# Altium schematic symbol library Regulator_Controller.SchLib: 154 symbols (part 2 of 2)
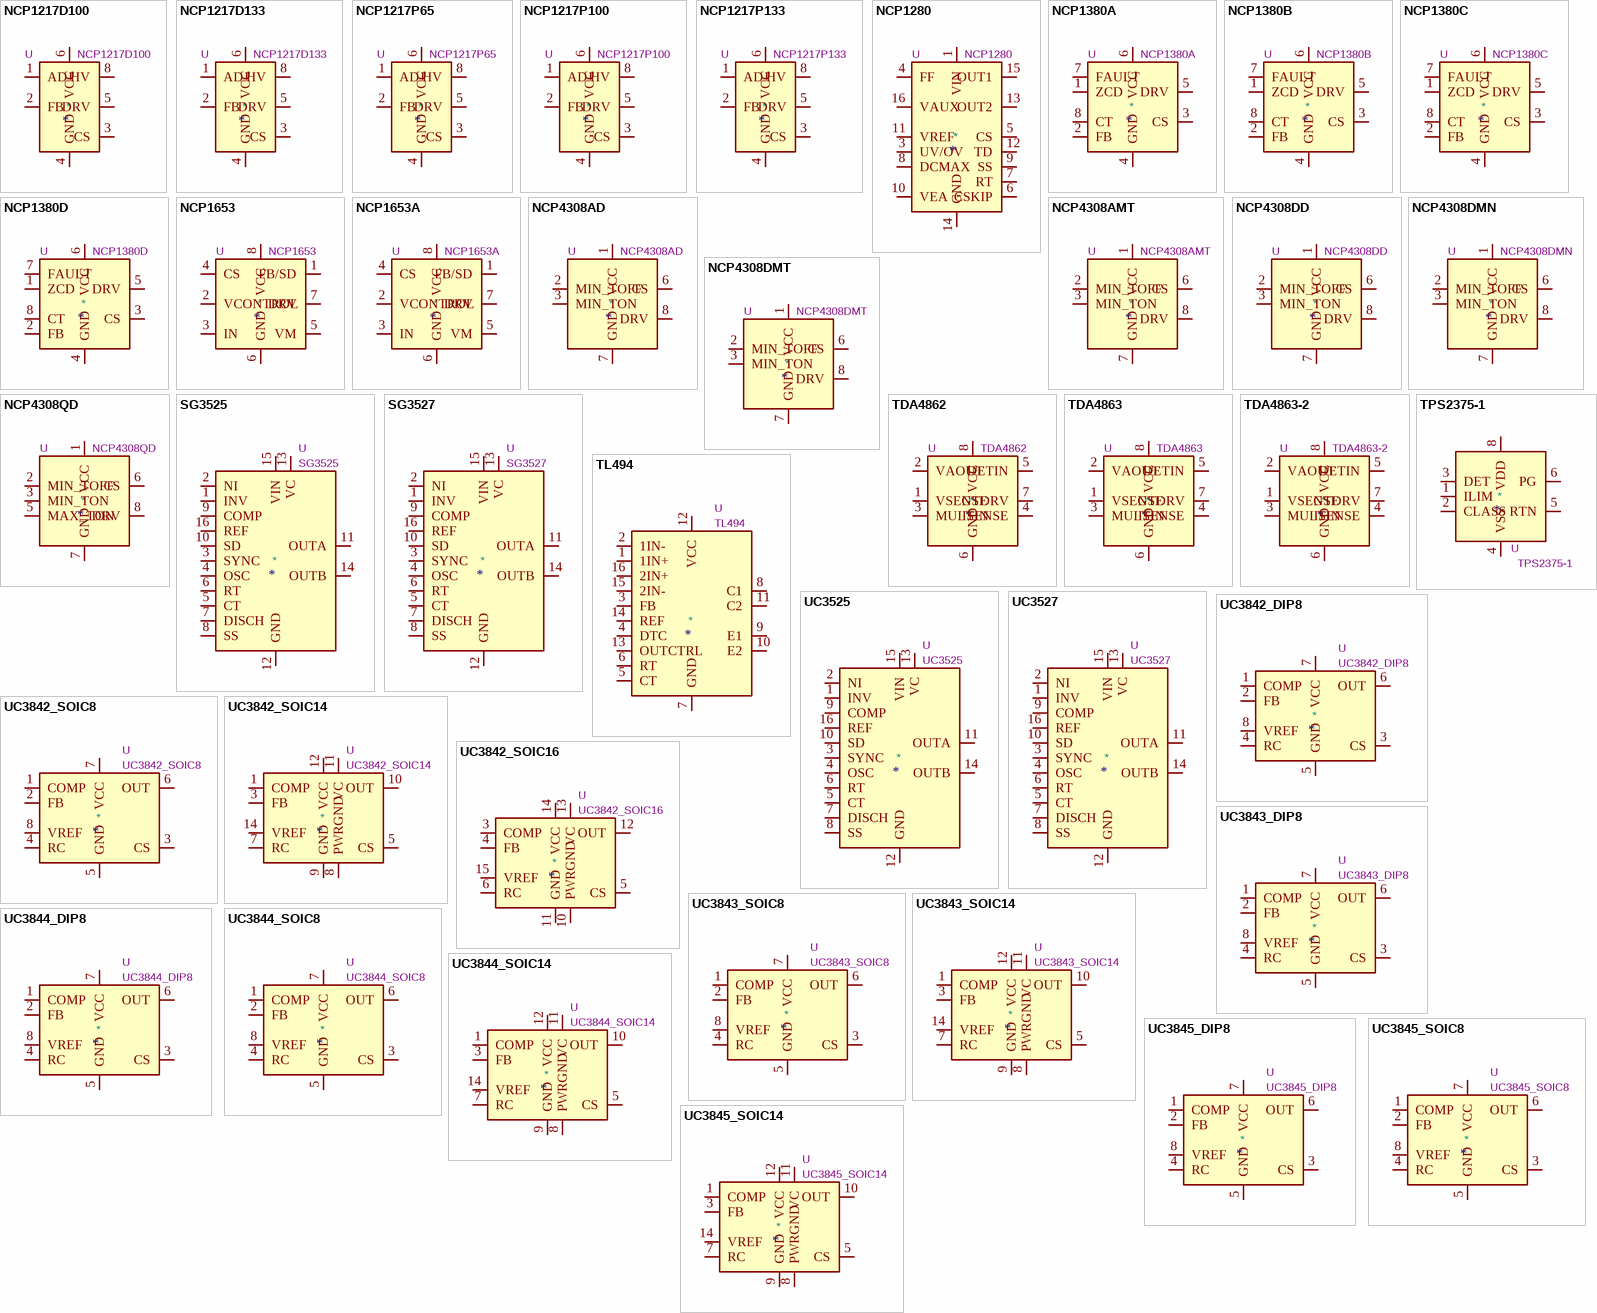
[diagram p4: symbols NCP1217D100 to UC3845_SOIC14]

## UC3844_DIP8
designator *  value UC3844_DIP8  Reference: U
ki_keywords: SMPS PWM Controller; ki_description: Current-Mode PWM Controllers, 50% Duty Cycle, 16V/10V UVLO, PDIP-8; ki_fp_filters: DIP*W7.62mm*; Footprint: Package_DIP:DIP-8_W7.62mm; Datasheet: http://www.ti.com/lit/ds/symlink/uc3842.pdf
pins: 1 COMP, 2 FB, 3 CS, 4 RC, 5 GND, 6 OUT, 7 VCC, 8 VREF

## UC3844_SOIC8
designator *  value UC3844_SOIC8  Reference: U
ki_keywords: SMPS PWM Controller; ki_description: Current-Mode PWM Controllers, 50% Duty Cycle, 16V/10V UVLO, SOIC-8; ki_fp_filters: SOIC*3.9x4.9mm*P1.27mm*; Footprint: Package_SO:SOIC-8_3.9x4.9mm_P1.27mm; Datasheet: http://www.ti.com/lit/ds/symlink/uc3842.pdf
pins: 1 COMP, 2 FB, 3 CS, 4 RC, 5 GND, 6 OUT, 7 VCC, 8 VREF

## UC3844_SOIC14
designator *  value UC3844_SOIC14  Reference: U
ki_keywords: SMPS PWM Controller; ki_description: Current-Mode PWM Controllers, 50% Duty Cycle, 16V/10V UVLO, SOIC-14; ki_fp_filters: SOIC*3.9x8.7mm*P1.27mm*; Footprint: Package_SO:SOIC-14_3.9x8.7mm_P1.27mm; Datasheet: http://www.ti.com/lit/ds/symlink/uc3842.pdf
pins: 1 COMP, 2 NC hidden, 3 FB, 4 NC hidden, 5 CS, 6 NC hidden, 7 RC, 8 PWRGND, 9 GND, 10 OUT, 11 VC, 12 VCC, 13 NC hidden, 14 VREF

## UC3845_DIP8
designator *  value UC3845_DIP8  Reference: U
ki_keywords: SMPS PWM Controller; ki_description: Current-Mode PWM Controllers, 50% Duty Cycle, 8.4V/7.6V UVLO, PDIP-8; ki_fp_filters: DIP*W7.62mm*; Footprint: Package_DIP:DIP-8_W7.62mm; Datasheet: http://www.ti.com/lit/ds/symlink/uc3842.pdf
pins: 1 COMP, 2 FB, 3 CS, 4 RC, 5 GND, 6 OUT, 7 VCC, 8 VREF

## UC3845_SOIC8
designator *  value UC3845_SOIC8  Reference: U
ki_keywords: SMPS PWM Controller; ki_description: Current-Mode PWM Controllers, 50% Duty Cycle, 8.4V/7.6V UVLO, SOIC-8; ki_fp_filters: SOIC*3.9x4.9mm*P1.27mm*; Footprint: Package_SO:SOIC-8_3.9x4.9mm_P1.27mm; Datasheet: http://www.ti.com/lit/ds/symlink/uc3842.pdf
pins: 1 COMP, 2 FB, 3 CS, 4 RC, 5 GND, 6 OUT, 7 VCC, 8 VREF

## UC3845_SOIC14
designator *  value UC3845_SOIC14  Reference: U
ki_keywords: SMPS PWM Controller; ki_description: Current-Mode PWM Controllers, 50% Duty Cycle, 8.4V/7.6V UVLO, SOIC-14; ki_fp_filters: SOIC*3.9x8.7mm*P1.27mm*; Footprint: Package_SO:SOIC-14_3.9x8.7mm_P1.27mm; Datasheet: http://www.ti.com/lit/ds/symlink/uc3842.pdf
pins: 1 COMP, 2 NC hidden, 3 FB, 4 NC hidden, 5 CS, 6 NC hidden, 7 RC, 8 PWRGND, 9 GND, 10 OUT, 11 VC, 12 VCC, 13 NC hidden, 14 VREF

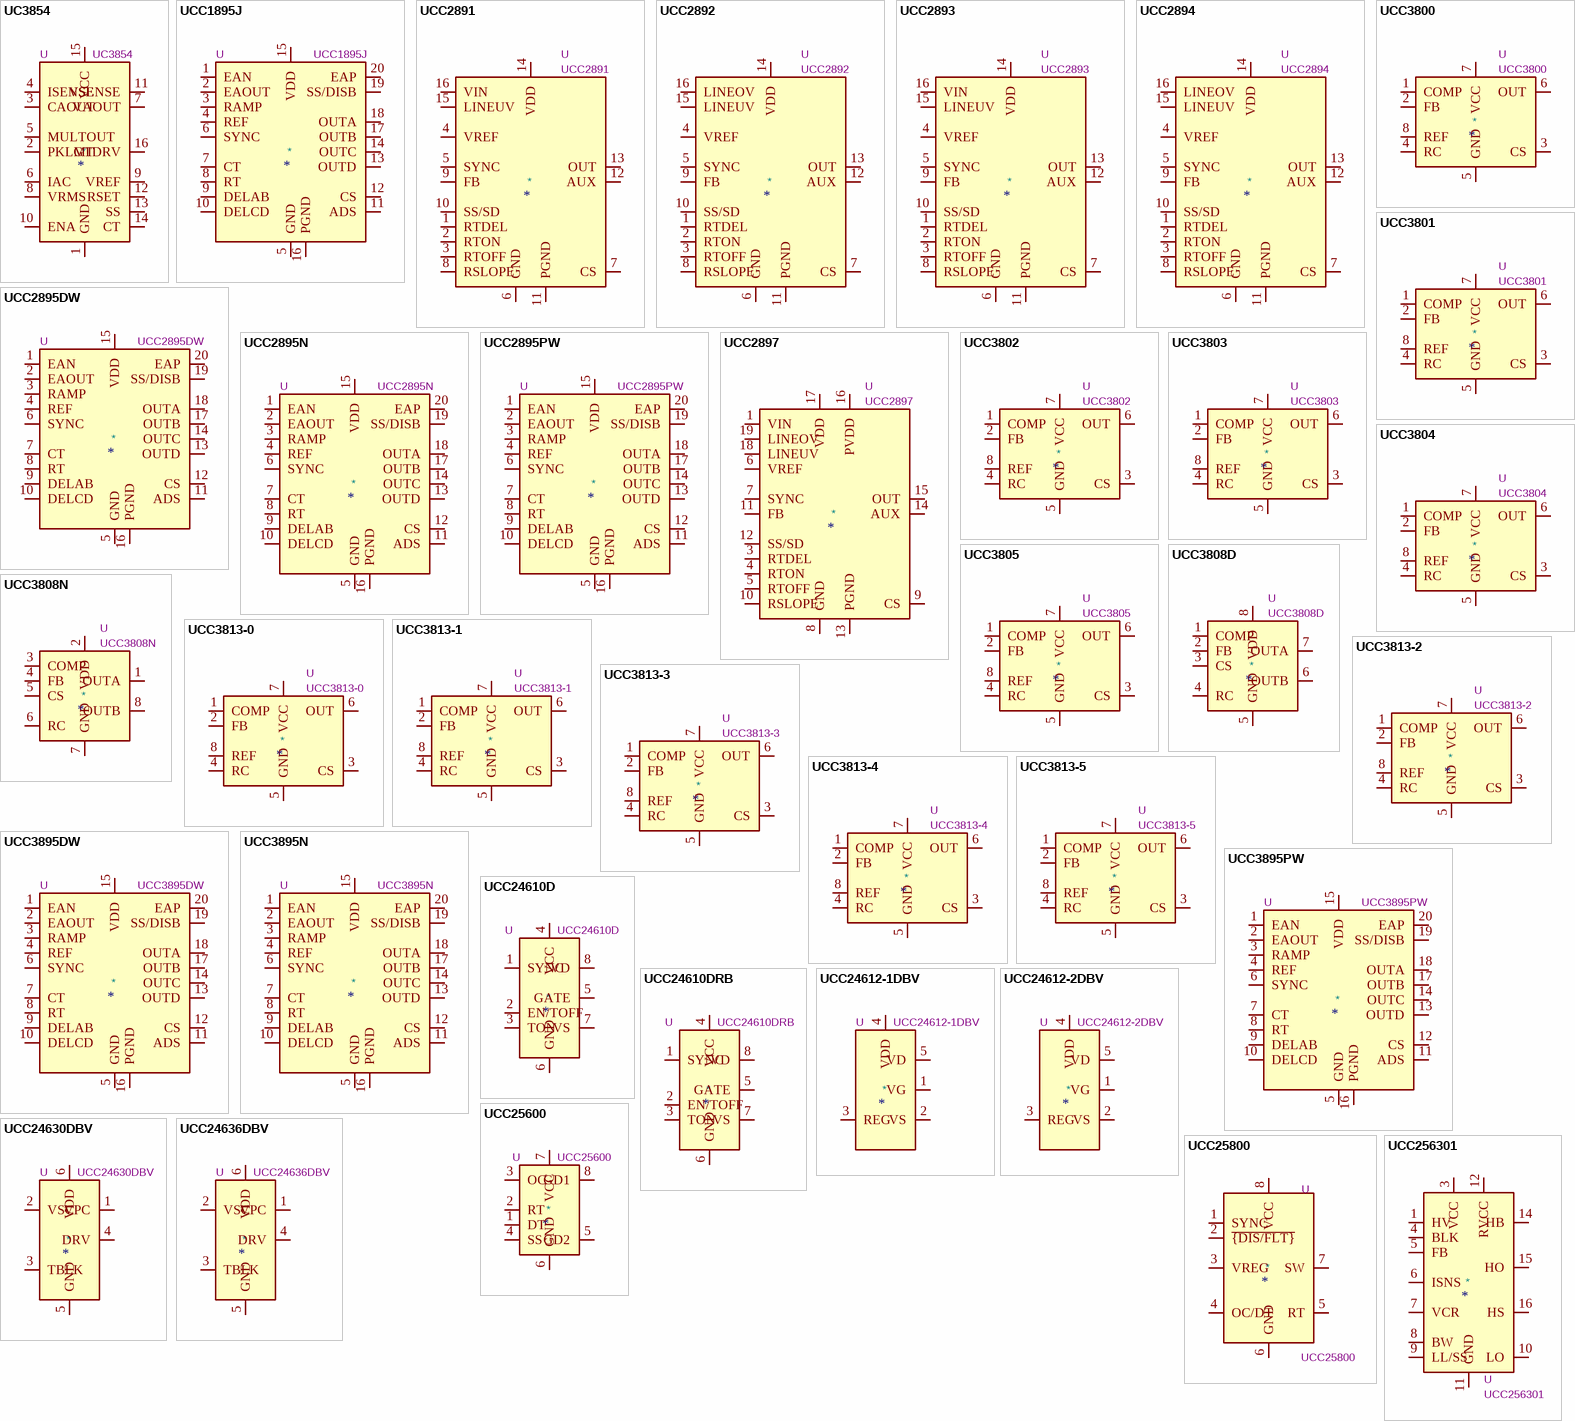
[diagram p3: symbols UC3854 to UCC256301]

## UC3854
designator *  value UC3854  Reference: U
ki_keywords: PFC SMPS Controller; ki_description: High-Power Factor Preregulator, DIP-16/SOIC-16W; ki_fp_filters: SOIC*7.5x10.3mm*P1.27mm* DIP*W7.62mm*; Datasheet: http://www.ti.com/lit/ds/symlink/uc3854.pdf
pins: 1 GND, 2 PKLMT, 3 CAOUT, 4 ISENSE, 5 MULTOUT, 6 IAC, 7 VAOUT, 8 VRMS, 9 VREF, 10 ENA, 11 VSENSE, 12 RSET, 13 SS, 14 CT, 15 VCC, 16 GTDRV

## UCC1895J
designator *  value UCC1895J  Reference: U
ki_keywords: Phase-shift full-bridge converter; ki_description: BiCMOS, Advanced Phase-ShiftPWM Controller, CDIP-20; ki_fp_filters: DIP*W7.62mm*; Footprint: Package_DIP:DIP-20_W7.62mm_LongPads; Datasheet: http://www.ti.com/lit/ds/symlink/ucc3895.pdf
pins: 1 EAN, 2 EAOUT, 3 RAMP, 4 REF, 5 GND, 6 SYNC, 7 CT, 8 RT, 9 DELAB, 10 DELCD, 11 ADS, 12 CS, 13 OUTD, 14 OUTC, 15 VDD, 16 PGND, 17 OUTB, 18 OUTA, 19 SS/DISB, 20 EAP

## UCC2891
designator *  value UCC2891  Reference: U
ki_keywords: SMPS PWM Controller; ki_description: SMPS Current-Mode Active Clamp PWM Controller, SOIC-16/TSSOP-16; ki_fp_filters: SOIC*3.9x9.9mm*P1.27mm* TSSOP*4.4x5mm*P0.65mm*; Datasheet: http://www.ti.com/lit/ds/symlink/ucc2891.pdf
pins: 1 RTDEL, 2 RTON, 3 RTOFF, 4 VREF, 5 SYNC, 6 GND, 7 CS, 8 RSLOPE, 9 FB, 10 SS/SD, 11 PGND, 12 AUX, 13 OUT, 14 VDD, 15 LINEUV, 16 VIN

## UCC2892
designator *  value UCC2892  Reference: U
ki_keywords: SMPS PWM Controller; ki_description: SMPS Current-Mode Active Clamp PWM Controller, SOIC-16/TSSOP-16; ki_fp_filters: SOIC*3.9x9.9mm*P1.27mm* TSSOP*4.4x5mm*P0.65mm*; Datasheet: http://www.ti.com/lit/ds/symlink/ucc2892.pdf
pins: 1 RTDEL, 2 RTON, 3 RTOFF, 4 VREF, 5 SYNC, 6 GND, 7 CS, 8 RSLOPE, 9 FB, 10 SS/SD, 11 PGND, 12 AUX, 13 OUT, 14 VDD, 15 LINEUV, 16 LINEOV

## UCC2893
designator *  value UCC2893  Reference: U
ki_keywords: SMPS PWM Controller; ki_description: SMPS Current-Mode Active Clamp PWM Controller, SOIC-16/TSSOP-16; ki_fp_filters: SOIC*3.9x9.9mm*P1.27mm* TSSOP*4.4x5mm*P0.65mm*; Datasheet: http://www.ti.com/lit/ds/symlink/ucc2893.pdf
pins: 1 RTDEL, 2 RTON, 3 RTOFF, 4 VREF, 5 SYNC, 6 GND, 7 CS, 8 RSLOPE, 9 FB, 10 SS/SD, 11 PGND, 12 AUX, 13 OUT, 14 VDD, 15 LINEUV, 16 VIN

## UCC2894
designator *  value UCC2894  Reference: U
ki_keywords: SMPS PWM Controller; ki_description: SMPS Current-Mode Active Clamp PWM Controller, SOIC-16/TSSOP-16; ki_fp_filters: SOIC*3.9x9.9mm*P1.27mm* TSSOP*4.4x5mm*P0.65mm*; Datasheet: http://www.ti.com/lit/ds/symlink/ucc2894.pdf
pins: 1 RTDEL, 2 RTON, 3 RTOFF, 4 VREF, 5 SYNC, 6 GND, 7 CS, 8 RSLOPE, 9 FB, 10 SS/SD, 11 PGND, 12 AUX, 13 OUT, 14 VDD, 15 LINEUV, 16 LINEOV

## UCC2895DW
designator *  value UCC2895DW  Reference: U
ki_keywords: Phase-shift full-bridge converter; ki_description: BiCMOS, Advanced Phase-ShiftPWM Controller, SOIC-20; ki_fp_filters: SOIC*7.5x12.8mm*P1.27mm*; Footprint: Package_SO:SOIC-20W_7.5x12.8mm_P1.27mm; Datasheet: http://www.ti.com/lit/ds/symlink/ucc3895.pdf
pins: 1 EAN, 2 EAOUT, 3 RAMP, 4 REF, 5 GND, 6 SYNC, 7 CT, 8 RT, 9 DELAB, 10 DELCD, 11 ADS, 12 CS, 13 OUTD, 14 OUTC, 15 VDD, 16 PGND, 17 OUTB, 18 OUTA, 19 SS/DISB, 20 EAP

## UCC2895N
designator *  value UCC2895N  Reference: U
ki_keywords: Phase-shift full-bridge converter; ki_description: BiCMOS, Advanced Phase-ShiftPWM Controller, DIP-20; ki_fp_filters: DIP*W7.62mm*; Footprint: Package_DIP:DIP-20_W7.62mm_LongPads; Datasheet: http://www.ti.com/lit/ds/symlink/ucc3895.pdf
pins: 1 EAN, 2 EAOUT, 3 RAMP, 4 REF, 5 GND, 6 SYNC, 7 CT, 8 RT, 9 DELAB, 10 DELCD, 11 ADS, 12 CS, 13 OUTD, 14 OUTC, 15 VDD, 16 PGND, 17 OUTB, 18 OUTA, 19 SS/DISB, 20 EAP

## UCC2895PW
designator *  value UCC2895PW  Reference: U
ki_keywords: Phase-shift full-bridge converter; ki_description: BiCMOS, Advanced Phase-ShiftPWM Controller, TSSOP-20; ki_fp_filters: TSSOP*4.4x6.5mm*P0.65mm*; Footprint: Package_SO:TSSOP-20_4.4x6.5mm_P0.65mm; Datasheet: http://www.ti.com/lit/ds/symlink/ucc3895.pdf
pins: 1 EAN, 2 EAOUT, 3 RAMP, 4 REF, 5 GND, 6 SYNC, 7 CT, 8 RT, 9 DELAB, 10 DELCD, 11 ADS, 12 CS, 13 OUTD, 14 OUTC, 15 VDD, 16 PGND, 17 OUTB, 18 OUTA, 19 SS/DISB, 20 EAP

## UCC2897
designator *  value UCC2897  Reference: U
ki_keywords: SMPS PWM Controller; ki_description: SMPS Advanced Current-Mode Active Clamp PWM Controller, TSSOP-20/QFN-20; ki_fp_filters: TSSOP*4.4x6.5mm*P0.65mm* QFN*4x4mm*P0.5mm*; Datasheet: http://www.ti.com/lit/ds/symlink/ucc2897.pdf
pins: 1 VIN, 2 NC hidden, 3 RTDEL, 4 RTON, 5 RTOFF, 6 VREF, 7 SYNC, 8 GND, 9 CS, 10 RSLOPE, 11 FB, 12 SS/SD, 13 PGND, 14 AUX, 15 OUT, 16 PVDD, 17 VDD, 18 LINEUV, 19 LINEOV, 20 NC hidden

## UCC3800
designator *  value UCC3800  Reference: U
ki_keywords: SMPS PWM Controller; ki_description: Low-Power BiCMOS Current-Mode PWM Controllers, 100% Duty Cycle, 7.2V/6.9V UVLO, DIP-8/SOIC-8/TSSOP-8; ki_fp_filters: TSSOP*4.4x3mm*P0.65mm* SOIC*3.9x4.9mm*P1.27mm* DIP*W7.62mm*; Datasheet: http://www.ti.com/lit/ds/symlink/ucc3800.pdf
pins: 1 COMP, 2 FB, 3 CS, 4 RC, 5 GND, 6 OUT, 7 VCC, 8 REF

## UCC3801
designator *  value UCC3801  Reference: U
ki_keywords: SMPS PWM Controller; ki_description: Low-Power BiCMOS Current-Mode PWM Controllers, 50% Duty Cycle, 9.4V/7.4V UVLO, DIP-8/SOIC-8/TSSOP-8; ki_fp_filters: TSSOP*4.4x3mm*P0.65mm* SOIC*3.9x4.9mm*P1.27mm* DIP*W7.62mm*; Datasheet: http://www.ti.com/lit/ds/symlink/ucc3800.pdf
pins: 1 COMP, 2 FB, 3 CS, 4 RC, 5 GND, 6 OUT, 7 VCC, 8 REF

## UCC3802
designator *  value UCC3802  Reference: U
ki_keywords: SMPS PWM Controller; ki_description: Low-Power BiCMOS Current-Mode PWM Controllers, 100% Duty Cycle, 12.5V/8.3V UVLO, DIP-8/SOIC-8/TSSOP-8; ki_fp_filters: TSSOP*4.4x3mm*P0.65mm* SOIC*3.9x4.9mm*P1.27mm* DIP*W7.62mm*; Datasheet: http://www.ti.com/lit/ds/symlink/ucc3800.pdf
pins: 1 COMP, 2 FB, 3 CS, 4 RC, 5 GND, 6 OUT, 7 VCC, 8 REF

## UCC3803
designator *  value UCC3803  Reference: U
ki_keywords: SMPS PWM Controller; ki_description: Low-Power BiCMOS Current-Mode PWM Controllers, 100% Duty Cycle, 4.1V/3.6V UVLO, DIP-8/SOIC-8/TSSOP-8; ki_fp_filters: TSSOP*4.4x3mm*P0.65mm* SOIC*3.9x4.9mm*P1.27mm* DIP*W7.62mm*; Datasheet: http://www.ti.com/lit/ds/symlink/ucc3800.pdf
pins: 1 COMP, 2 FB, 3 CS, 4 RC, 5 GND, 6 OUT, 7 VCC, 8 REF

## UCC3804
designator *  value UCC3804  Reference: U
ki_keywords: SMPS PWM Controller; ki_description: Low-Power BiCMOS Current-Mode PWM Controllers, 50% Duty Cycle, 12.5V/8.3V UVLO, DIP-8/SOIC-8/TSSOP-8; ki_fp_filters: TSSOP*4.4x3mm*P0.65mm* SOIC*3.9x4.9mm*P1.27mm* DIP*W7.62mm*; Datasheet: http://www.ti.com/lit/ds/symlink/ucc3800.pdf
pins: 1 COMP, 2 FB, 3 CS, 4 RC, 5 GND, 6 OUT, 7 VCC, 8 REF

## UCC3805
designator *  value UCC3805  Reference: U
ki_keywords: SMPS PWM Controller; ki_description: Low-Power BiCMOS Current-Mode PWM Controllers, 50% Duty Cycle, 4.1V/3.6V UVLO, DIP-8/SOIC-8/TSSOP-8; ki_fp_filters: TSSOP*4.4x3mm*P0.65mm* SOIC*3.9x4.9mm*P1.27mm* DIP*W7.62mm*; Datasheet: http://www.ti.com/lit/ds/symlink/ucc3800.pdf
pins: 1 COMP, 2 FB, 3 CS, 4 RC, 5 GND, 6 OUT, 7 VCC, 8 REF

## UCC3808D
designator *  value UCC3808D  Reference: U
ki_keywords: SMPS PWM Controller; ki_description: Low Power Current Mode Push-Pull PWM, SOIC-8; ki_fp_filters: SOIC*3.9x4.9mm*P1.27mm*; Footprint: Package_SO:SOIC-8_3.9x4.9mm_P1.27mm; Datasheet: http://www.ti.com/lit/ds/symlink/ucc3808-2.pdf
pins: 1 COMP, 2 FB, 3 CS, 4 RC, 5 GND, 6 OUTB, 7 OUTA, 8 VDD

## UCC3808N
designator *  value UCC3808N  Reference: U
ki_keywords: SMPS PWM Controller; ki_description: Low Power Current Mode Push-Pull PWM, PDIP-8; ki_fp_filters: DIP*W7.62mm*; Footprint: Package_DIP:DIP-8_W7.62mm; Datasheet: http://www.ti.com/lit/ds/symlink/ucc3808-2.pdf
pins: 1 OUTA, 2 VDD, 3 COMP, 4 FB, 5 CS, 6 RC, 7 GND, 8 OUTB

## UCC3813-0
designator *  value UCC3813-0  Reference: U
ki_keywords: SMPS PWM Controller; ki_description: Low-Power Economy BiCMOS Current-Mode PWM, 100% Duty Cycle, 7.2V/6.9V UVLO, DIP-8/SOIC-8/TSSOP-8; ki_fp_filters: TSSOP*4.4x3mm*P0.65mm* SOIC*3.9x4.9mm*P1.27mm* DIP*W7.62mm*; Datasheet: http://www.ti.com/lit/ds/symlink/ucc3813-1.pdf
pins: 1 COMP, 2 FB, 3 CS, 4 RC, 5 GND, 6 OUT, 7 VCC, 8 REF

## UCC3813-1
designator *  value UCC3813-1  Reference: U
ki_keywords: SMPS PWM Controller; ki_description: Low-Power Economy BiCMOS Current-Mode PWM, 50% Duty Cycle, 9.4V/7.4V UVLO, DIP-8/SOIC-8/TSSOP-8; ki_fp_filters: TSSOP*4.4x3mm*P0.65mm* SOIC*3.9x4.9mm*P1.27mm* DIP*W7.62mm*; Datasheet: http://www.ti.com/lit/ds/symlink/ucc3813-1.pdf
pins: 1 COMP, 2 FB, 3 CS, 4 RC, 5 GND, 6 OUT, 7 VCC, 8 REF

## UCC3813-2
designator *  value UCC3813-2  Reference: U
ki_keywords: SMPS PWM Controller; ki_description: Low-Power Economy BiCMOS Current-Mode PWM, 100% Duty Cycle, 12.5V/8.3V UVLO, DIP-8/SOIC-8/TSSOP-8; ki_fp_filters: TSSOP*4.4x3mm*P0.65mm* SOIC*3.9x4.9mm*P1.27mm* DIP*W7.62mm*; Datasheet: http://www.ti.com/lit/ds/symlink/ucc3813-1.pdf
pins: 1 COMP, 2 FB, 3 CS, 4 RC, 5 GND, 6 OUT, 7 VCC, 8 REF

## UCC3813-3
designator *  value UCC3813-3  Reference: U
ki_keywords: SMPS PWM Controller; ki_description: Low-Power Economy BiCMOS Current-Mode PWM, 100% Duty Cycle, 4.1V/3.6V UVLO, DIP-8/SOIC-8/TSSOP-8; ki_fp_filters: TSSOP*4.4x3mm*P0.65mm* SOIC*3.9x4.9mm*P1.27mm* DIP*W7.62mm*; Datasheet: http://www.ti.com/lit/ds/symlink/ucc3813-1.pdf
pins: 1 COMP, 2 FB, 3 CS, 4 RC, 5 GND, 6 OUT, 7 VCC, 8 REF

## UCC3813-4
designator *  value UCC3813-4  Reference: U
ki_keywords: SMPS PWM Controller; ki_description: Low-Power Economy BiCMOS Current-Mode PWM, 50% Duty Cycle, 12.5V/8.3V UVLO, DIP-8/SOIC-8/TSSOP-8; ki_fp_filters: TSSOP*4.4x3mm*P0.65mm* SOIC*3.9x4.9mm*P1.27mm* DIP*W7.62mm*; Datasheet: http://www.ti.com/lit/ds/symlink/ucc3813-1.pdf
pins: 1 COMP, 2 FB, 3 CS, 4 RC, 5 GND, 6 OUT, 7 VCC, 8 REF

## UCC3813-5
designator *  value UCC3813-5  Reference: U
ki_keywords: SMPS PWM Controller; ki_description: Low-Power Economy BiCMOS Current-Mode PWM, 50% Duty Cycle, 4.1V/3.6V UVLO, DIP-8/SOIC-8/TSSOP-8; ki_fp_filters: TSSOP*4.4x3mm*P0.65mm* SOIC*3.9x4.9mm*P1.27mm* DIP*W7.62mm*; Datasheet: http://www.ti.com/lit/ds/symlink/ucc3813-1.pdf
pins: 1 COMP, 2 FB, 3 CS, 4 RC, 5 GND, 6 OUT, 7 VCC, 8 REF

## UCC3895DW
designator *  value UCC3895DW  Reference: U
ki_keywords: Phase-shift full-bridge converter; ki_description: BiCMOS, Advanced Phase-ShiftPWM Controller, SOIC-20; ki_fp_filters: SOIC*7.5x12.8mm*P1.27mm*; Footprint: Package_SO:SOIC-20W_7.5x12.8mm_P1.27mm; Datasheet: http://www.ti.com/lit/ds/symlink/ucc3895.pdf
pins: 1 EAN, 2 EAOUT, 3 RAMP, 4 REF, 5 GND, 6 SYNC, 7 CT, 8 RT, 9 DELAB, 10 DELCD, 11 ADS, 12 CS, 13 OUTD, 14 OUTC, 15 VDD, 16 PGND, 17 OUTB, 18 OUTA, 19 SS/DISB, 20 EAP

## UCC3895N
designator *  value UCC3895N  Reference: U
ki_keywords: Phase-shift full-bridge converter; ki_description: BiCMOS, Advanced Phase-ShiftPWM Controller, DIP-20; ki_fp_filters: DIP*W7.62mm*; Footprint: Package_DIP:DIP-20_W7.62mm_LongPads; Datasheet: http://www.ti.com/lit/ds/symlink/ucc3895.pdf
pins: 1 EAN, 2 EAOUT, 3 RAMP, 4 REF, 5 GND, 6 SYNC, 7 CT, 8 RT, 9 DELAB, 10 DELCD, 11 ADS, 12 CS, 13 OUTD, 14 OUTC, 15 VDD, 16 PGND, 17 OUTB, 18 OUTA, 19 SS/DISB, 20 EAP

## UCC3895PW
designator *  value UCC3895PW  Reference: U
ki_keywords: Phase-shift full-bridge converter; ki_description: BiCMOS, Advanced Phase-ShiftPWM Controller, TSSOP-20; ki_fp_filters: TSSOP*4.4x6.5mm*P0.65mm*; Footprint: Package_SO:TSSOP-20_4.4x6.5mm_P0.65mm; Datasheet: http://www.ti.com/lit/ds/symlink/ucc3895.pdf
pins: 1 EAN, 2 EAOUT, 3 RAMP, 4 REF, 5 GND, 6 SYNC, 7 CT, 8 RT, 9 DELAB, 10 DELCD, 11 ADS, 12 CS, 13 OUTD, 14 OUTC, 15 VDD, 16 PGND, 17 OUTB, 18 OUTA, 19 SS/DISB, 20 EAP

## UCC24610D
designator *  value UCC24610D  Reference: U
ki_keywords: synchronous rectifier controller; ki_description: GREEN Rectifier Controller Device, 600kHz, SOIC-8; ki_fp_filters: SOIC*3.9x4.9mm*P1.27mm*; Footprint: Package_SO:SOIC-8_3.9x4.9mm_P1.27mm; Datasheet: http://www.ti.com/lit/ds/symlink/ucc24610.pdf
pins: 1 SYNC, 2 EN/TOFF, 3 TON, 4 VCC, 5 GATE, 6 GND, 7 VS, 8 VD

## UCC24610DRB
designator *  value UCC24610DRB  Reference: U
ki_keywords: synchronous rectifier controller; ki_description: GREEN Rectifier Controller Device, 600kHz, DFN-8; ki_fp_filters: Texas*DRB*; Footprint: Package_DFN_QFN:Texas_DRB0008A; Datasheet: http://www.ti.com/lit/ds/symlink/ucc24610.pdf
pins: 1 SYNC, 2 EN/TOFF, 3 TON, 4 VCC, 5 GATE, 6 GND, 7 VS, 8 VD

## UCC24612-1DBV
designator *  value UCC24612-1DBV  Reference: U
ki_keywords: synchronous rectifier controller; ki_description: High Frequency Synchronous Rectifier Controller, 1MHz, Min On Time = 375ns, SOT-23-5; ki_fp_filters: SOT?23*; Footprint: Package_TO_SOT_SMD:SOT-23-5; Datasheet: http://www.ti.com/lit/ds/symlink/ucc24612.pdf
pins: 1 VG, 2 VS, 3 REG, 4 VDD, 5 VD

## UCC24612-2DBV
designator *  value UCC24612-2DBV  Reference: U
ki_keywords: synchronous rectifier controller; ki_description: High Frequency Synchronous Rectifier Controller, 800kHz, Min On Time = 540ns, SOT-23-5; ki_fp_filters: SOT?23*; Footprint: Package_TO_SOT_SMD:SOT-23-5; Datasheet: http://www.ti.com/lit/ds/symlink/ucc24612.pdf
pins: 1 VG, 2 VS, 3 REG, 4 VDD, 5 VD

## UCC24630DBV
designator *  value UCC24630DBV  Reference: U
ki_keywords: synchronous rectifier controller; ki_description: Synchronous Rectifier Controller, 200kHz, CCM, SOT-23-6; ki_fp_filters: SOT?23*; Footprint: Package_TO_SOT_SMD:SOT-23-6; Datasheet: http://www.ti.com/lit/ds/symlink/ucc24630.pdf
pins: 1 VPC, 2 VSC, 3 TBLK, 4 DRV, 5 GND, 6 VDD

## UCC24636DBV
designator *  value UCC24636DBV  Reference: U
ki_keywords: synchronous rectifier controller; ki_description: Synchronous Rectifier Controller, 130kHz, DCM/TM, SOT-23-6; ki_fp_filters: SOT?23*; Footprint: Package_TO_SOT_SMD:SOT-23-6; Datasheet: http://www.ti.com/lit/ds/symlink/ucc24636.pdf
pins: 1 VPC, 2 VSC, 3 TBLK, 4 DRV, 5 GND, 6 VDD

## UCC25600
designator *  value UCC25600  Reference: U
ki_keywords: SMPS PWM Controller; ki_description: High-Performance Resonant Mode Controller, SOIC-8; ki_fp_filters: SOIC*3.9x4.9mm*P1.27mm*; Footprint: Package_SO:SOIC-8_3.9x4.9mm_P1.27mm; Datasheet: http://www.ti.com/lit/ds/symlink/ucc25600.pdf
pins: 1 DT, 2 RT, 3 OC, 4 SS, 5 GD2, 6 GND, 7 VCC, 8 GD1

## UCC25800
designator *  value UCC25800  Reference: U
ki_keywords: transformer driver isolated bias supply llc converter; ki_description: Ultra-low EMI Transformer Driver for Isolated Bias Supplies, HVSSOP-8; ki_fp_filters: HVSSOP*1EP*P0.65mm*; Footprint: Package_SO:HVSSOP-8-1EP_3x3mm_P0.65mm_EP1.57x1.89mm; Datasheet: https://www.ti.com/lit/ds/symlink/ucc25800-q1.pdf
pins: 1 SYNC, 2 ~{{DIS/FLT}}, 3 VREG, 4 OC/DT, 5 RT, 6 GND, 7 SW, 8 VCC, 9 GND hidden

## UCC256301
designator *  value UCC256301  Reference: U
ki_keywords: SMPS PWM Controller; ki_description: Hybrid Hysteretic LLC Resonant Controller, SOIC-16; ki_fp_filters: SOIC*3.9x9.9mm*P1.27mm*; Footprint: Package_SO:SOIC-14-16_3.9x9.9mm_P1.27mm; Datasheet: https://www.ti.com/lit/ds/symlink/ucc256301.pdf
pins: 1 HV, 3 VCC, 4 BLK, 5 FB, 6 ISNS, 7 VCR, 8 BW, 9 LL/SS, 10 LO, 11 GND, 12 RVCC, 14 HB, 15 HO, 16 HS